# EAGLE library part TSC2046 (library TSC2046)
ADS7846 Touch Screen Controller
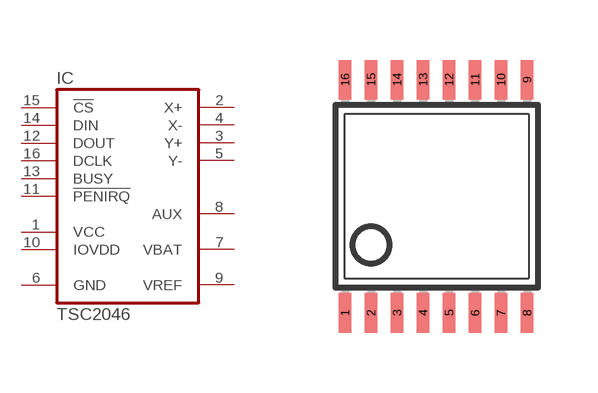
[diagram p0: symbol with the pads of TSSOP16; footprint TSSOP16]

Designator prefix IC

## TSC2046  [TSSOP16]
1  VCC  pwr
2  X+  in
3  Y+  in
4  X-  in
5  Y-  in
6  GND  pwr
7  VBAT  in
8  AUX  in
9  VREF
10  IOVDD  pwr
11  !PENIRQ  out
12  DOUT  in
13  BUSY  out
14  DIN  in
15  !CS  in
16  DCLK  out

## Footprint TSSOP16 (pad centres in mm)
smd 0.305 x 0.991: 1 -2.925,-2.918; 2 -2.275,-2.918; 3 -1.625,-2.918; 4 -0.975,-2.918; 5 -0.325,-2.918; 6 0.325,-2.918; 7 0.975,-2.918; 8 1.625,-2.918; 9 1.625,2.918; 10 0.975,2.918; 11 0.325,2.918; 12 -0.325,2.918; 13 -0.975,2.918; 14 -1.625,2.918; 15 -2.275,2.918; 16 -2.925,2.918